# Altium schematic symbol library npn.SchLib: 1 symbol
Pins are listed as number, name and electrical type; pins without a type are passive.

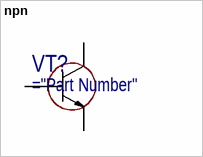
[diagram p0: symbol npn]

## npn
designator VT?
pins: 1, 2, 3